# EAGLE library part STM32F030F4P6 (library STM32F030F4P6)
32-Bit MCU Cortex-M0 16KB Flash TSSOP20 STM32F030F4P6, 32 bit ARM Cortex M0 Microcontroller 48MHz 16 kB Flash, 4 kB RAM, I2C 20-Pin TSSOP Source: Datasheet <http://www.st.com/web/en/resource/technical/document/datasheet/DM00088500.pdf>
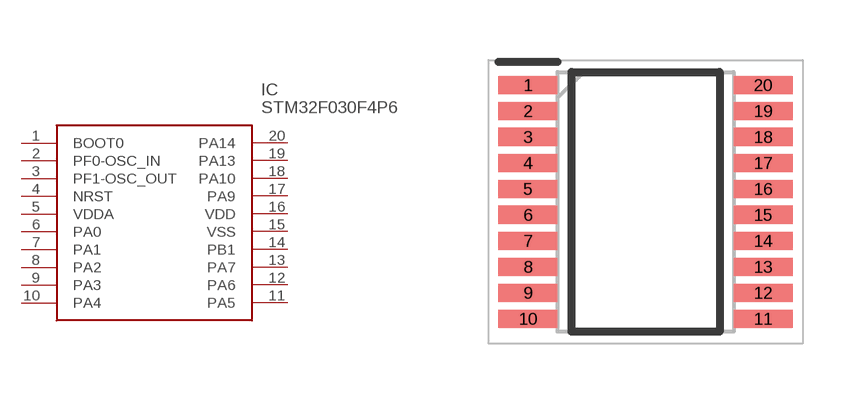
[diagram p0: symbol with the pads of SOP65P640X120-20N; footprint SOP65P640X120-20N]

Designator prefix IC

## STM32F030F4P6 (Description: 32-Bit MCU Cortex-M0 16KB Flash TSSOP20 STM32F030F4P6, 32 bit ARM Cortex M0 Microcontroller 48MHz 16 kB Flash, 4 kB RAM, I2C 20-Pin TSSOP; Height: 1.2mm; Manufacturer_Name: STMicroelectronics; Manufacturer_Part_Number: STM32F030F4P6; Mouser_Part_Number: 511-STM32F030F4P6; Mouser_Price-Stock: https://www.mouser.co.uk/ProductDetail/STMicroelectronics/STM32F030F4P6?qs=eyrSuY1LhL02tVhJ92aI6g%3D%3D)  [SOP65P640X120-20N]
1  BOOT0
2  PF0-OSC_IN
3  PF1-OSC_OUT
4  NRST
5  VDDA
6  PA0
7  PA1
8  PA2
9  PA3
10  PA4
11  PA5
12  PA6
13  PA7
14  PB1
15  VSS
16  VDD
17  PA9
18  PA10
19  PA13
20  PA14

## Footprint SOP65P640X120-20N (pad centres in mm)
TSSOP-20+
smd 1.475 x 0.45: 1 -2.938,2.925; 2 -2.938,2.275; 3 -2.938,1.625; 4 -2.938,0.975; 5 -2.938,0.325; 6 -2.938,-0.325; 7 -2.938,-0.975; 8 -2.938,-1.625; 9 -2.938,-2.275; 10 -2.938,-2.925; 11 2.938,-2.925; 12 2.938,-2.275; 13 2.938,-1.625; 14 2.938,-0.975; 15 2.938,-0.325; 16 2.938,0.325; 17 2.938,0.975; 18 2.938,1.625; 19 2.938,2.275; 20 2.938,2.925